# Altium schematic symbol library LPS25HBTR.SchLib: 1 symbol
Pins are listed as number, name and electrical type; pins without a type are passive.

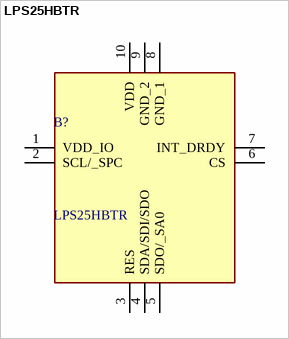
[diagram p0: symbol LPS25HBTR]

## LPS25HBTR
designator B?
Board Mount Pressure Sensor 26kPa to 126kPa Absolute 10-Pin HLGA T/R; Manufacturer_Name: STMicroelectronics; Geometry.Height: 0.8mm; Mouser Part Number: 511-LPS25HBTR; Mouser Price/Stock: https://www.mouser.co.uk/ProductDetail/STMicroelectronics/LPS25HBTR?qs=GDOUxV2YAh9IvjPyBKWGzQ%3D%3D; Manufacturer_Part_Number: LPS25HBTR; Datasheet Link: https://www.st.com/resource/en/datasheet/lps25hb.pdf
footprint LPS25HBTR
pins: 1 VDD_IO, 2 SCL/_SPC, 3 RES, 4 SDA/SDI/SDO, 5 SDO/_SA0, 6 CS, 7 INT_DRDY, 8 GND_1, 9 GND_2, 10 VDD